# EAGLE library part M165 (library dec-m)
8 Buffers
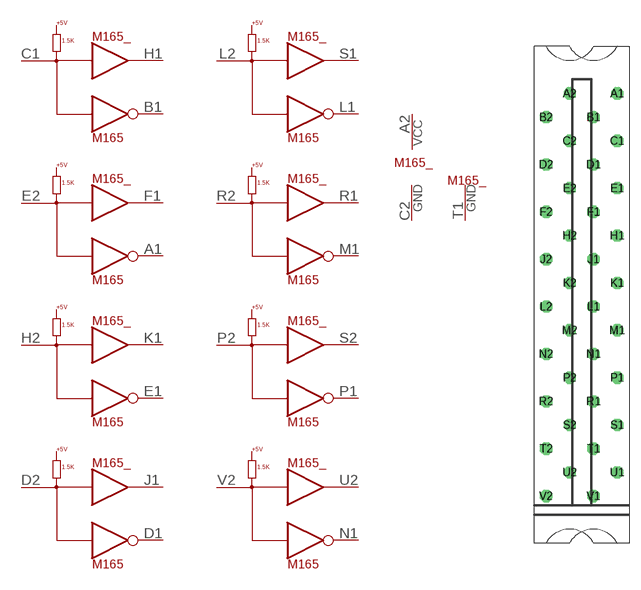
[diagram p119: symbol with the pads of H807; footprint H807]

Designator prefix M165_; gates G$3=POWER G$4=T1GND H1=BUFFERS F1=BUFFERS K1=BUFFERS J1=BUFFERS S1=BUFFERS R1=BUFFERS S2=BUFFERS U2=BUFFERS

## M165  [H807]
A1  F1:!OUT  out
A2  G$3:VCC  pwr
B1  H1:!OUT  out
C1  H1:IN  in
C2  G$3:GND  pwr
D1  J1:!OUT  out
D2  J1:IN  in
E1  K1:!OUT  out
E2  F1:IN  in
F1  F1:OUT  out
H1  H1:OUT  out
H2  K1:IN  in
J1  J1:OUT  out
K1  K1:OUT  out
L1  S1:!OUT  out
L2  S1:IN  in
M1  R1:!OUT  out
N1  U2:!OUT  out
P1  S2:!OUT  out
P2  S2:IN  in
R1  R1:OUT  out
R2  R1:IN  in
S1  S1:OUT  out
S2  S2:OUT  out
T1  G$4:GND  pwr
U2  U2:OUT  out
V2  U2:IN  in

## Footprint H807 (pad centres in mm)
One-wide female edge connector
drill 1.092 octagon: A1 4.763,28.575; A2 -1.587,28.575; B1 1.587,25.4; B2 -4.763,25.4; C1 4.763,22.225; C2 -1.587,22.225; D1 1.587,19.05; D2 -4.763,19.05; E1 4.763,15.875; E2 -1.587,15.875; F1 1.587,12.7; F2 -4.763,12.7; H1 4.763,9.525; H2 -1.587,9.525; J1 1.587,6.35; J2 -4.763,6.35; K1 4.763,3.175; K2 -1.587,3.175; L1 1.587,0; L2 -4.763,0; M1 4.763,-3.175; M2 -1.587,-3.175; N1 1.587,-6.35; N2 -4.763,-6.35; P1 4.763,-9.525; P2 -1.587,-9.525; R1 1.587,-12.7; R2 -4.763,-12.7; S1 4.763,-15.875; S2 -1.587,-15.875; T1 1.587,-19.05; T2 -4.763,-19.05; U1 4.763,-22.225; U2 -1.587,-22.225; V1 1.587,-25.4; V2 -4.763,-25.4